# Altium schematic symbol library Socket 1X2.SchLib: 1 symbol
Pins are listed as number, name and electrical type; pins without a type are passive.

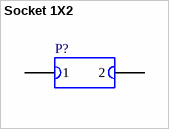
[diagram p0: symbol Socket 1X2]

## Socket 1X2
designator P?
Socket, 1-Pin, Dual row
pins: 1, 2